# Altium schematic symbol library CH340C.SchLib: 1 symbol
Pins are listed as number, name and electrical type; pins without a type are passive.

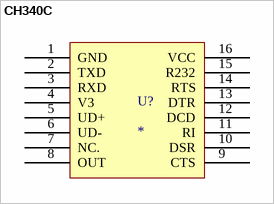
[diagram p0: symbol CH340C]

## CH340C
designator U?
footprint SOP16N_N (10.3*7*1.8mm（长宽高）)
pins: 1 GND, 2 TXD, 3 RXD, 4 V3, 5 UD+, 6 UD-, 7 NC., 8 OUT, 9 CTS, 10 DSR, 11 RI, 12 DCD, 13 DTR, 14 RTS, 15 R232, 16 VCC